# Altium footprint library FootPrintLib_6.PcbLib: 588 footprints (part 2 of 37)
Each footprint in its own frame and in the unit in brackets; x right, y up, seen from the top. Pads: shape width x height; smd on the part's side, far side on the other; paste and mask are expansions set on the pad; w line width, h text height; cw(c..) or ccw(c..) is an arc to the next point about the centre after c.
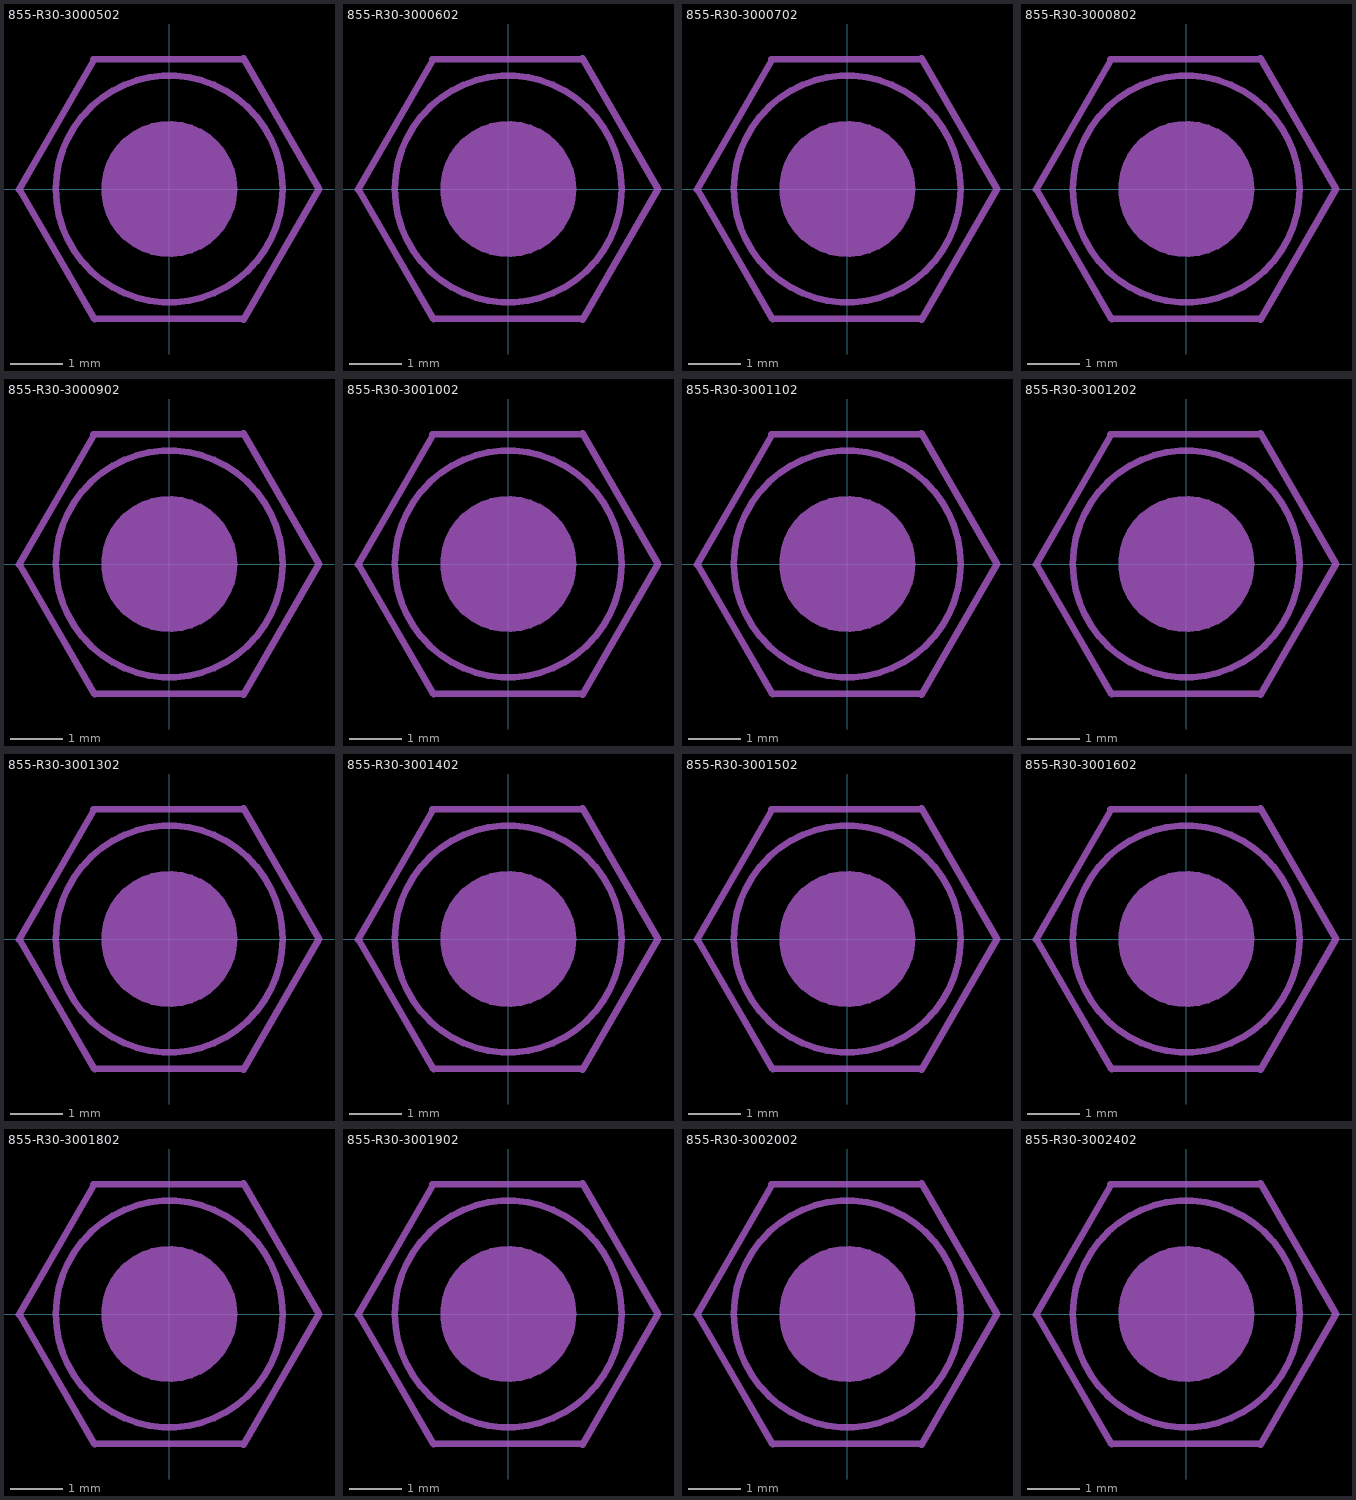
[diagram p1: the footprints below, top view; thin cyan lines are the x and y axes]

## 855-R30-3000502 [mm] "HARWiN Metric HEX Spacer; Threaded-Brass/Nickel; Male/Female; M3 X 05 mm"
height 5
Mechanical 2:
  circle w0.127: c0,0 r1.25
  circle w0.127: c0,0 r2.185
  region: -1.25,0 -1.25,-0.123 -1.202,-0.365 -1.108,-0.592 -0.971,-0.797 -0.797,-0.971 -0.592,-1.108 -0.365,-1.202 -0.123,-1.25 0,-1.25 0.123,-1.25 0.365,-1.202 0.592,-1.108 0.797,-0.971 0.971,-0.797 1.108,-0.592 1.202,-0.365 1.25,-0.123 1.25,0 1.25,0.123 1.202,0.365 1.108,0.592 0.971,0.797 0.797,0.971 0.592,1.108 0.365,1.202 0.123,1.25 0,1.25 -0.123,1.25 -0.365,1.202 -0.592,1.108 -0.797,0.971 -0.971,0.797 -1.108,0.592 -1.202,0.365 -1.25,0.123
  lines w0.127: -2.895,-0.015 -1.464,2.465 ; -2.87,-0.03 -1.438,-2.51 ; -1.464,2.5 1.432,2.5 ; -1.42,-2.5 1.432,-2.5 ; 1.432,-2.52 2.887,0 1.432,2.52
3D body "Metric Brass-Nickel HEX Spacer Male-Female M3 X 05 mm.STEP": height 5, standoff -6, extent -2.887,-2.5 2.887,2.5

## 855-R30-3000602 [mm] "HARWiN Metric HEX Spacer; Threaded-Brass/Nickel; Male/Female; M3 X 06 mm"
height 6
Mechanical 2:
  circle w0.127: c0,0 r1.25
  circle w0.127: c0,0 r2.185
  region: -1.25,0 -1.25,-0.123 -1.202,-0.365 -1.108,-0.592 -0.971,-0.797 -0.797,-0.971 -0.592,-1.108 -0.365,-1.202 -0.123,-1.25 0,-1.25 0.123,-1.25 0.365,-1.202 0.592,-1.108 0.797,-0.971 0.971,-0.797 1.108,-0.592 1.202,-0.365 1.25,-0.123 1.25,0 1.25,0.123 1.202,0.365 1.108,0.592 0.971,0.797 0.797,0.971 0.592,1.108 0.365,1.202 0.123,1.25 0,1.25 -0.123,1.25 -0.365,1.202 -0.592,1.108 -0.797,0.971 -0.971,0.797 -1.108,0.592 -1.202,0.365 -1.25,0.123
  lines w0.127: -2.895,-0.015 -1.464,2.465 ; -2.87,-0.03 -1.438,-2.51 ; -1.464,2.5 1.432,2.5 ; -1.42,-2.5 1.432,-2.5 ; 1.432,-2.52 2.887,0 1.432,2.52
3D body "Metric Brass-Nickel HEX Spacer Male-Female M3 X 06 mm.STEP": height 6, standoff -6, extent -2.887,-2.5 2.887,2.5

## 855-R30-3000702 [mm] "HARWiN Metric HEX Spacer; Threaded-Brass/Nickel; Male/Female; M3 X 07 mm"
height 7
Mechanical 2:
  circle w0.127: c0,0 r1.25
  circle w0.127: c0,0 r2.185
  region: -1.25,0 -1.25,-0.123 -1.202,-0.365 -1.108,-0.592 -0.971,-0.797 -0.797,-0.971 -0.592,-1.108 -0.365,-1.202 -0.123,-1.25 0,-1.25 0.123,-1.25 0.365,-1.202 0.592,-1.108 0.797,-0.971 0.971,-0.797 1.108,-0.592 1.202,-0.365 1.25,-0.123 1.25,0 1.25,0.123 1.202,0.365 1.108,0.592 0.971,0.797 0.797,0.971 0.592,1.108 0.365,1.202 0.123,1.25 0,1.25 -0.123,1.25 -0.365,1.202 -0.592,1.108 -0.797,0.971 -0.971,0.797 -1.108,0.592 -1.202,0.365 -1.25,0.123
  lines w0.127: -2.895,-0.015 -1.464,2.465 ; -2.87,-0.03 -1.438,-2.51 ; -1.464,2.5 1.432,2.5 ; -1.42,-2.5 1.432,-2.5 ; 1.432,-2.52 2.887,0 1.432,2.52
3D body "Metric Brass-Nickel HEX Spacer Male-Female M3 X 07 mm.STEP": height 7, standoff -6, extent -2.887,-2.5 2.887,2.5

## 855-R30-3000802 [mm] "HARWiN Metric HEX Spacer; Threaded-Brass/Nickel; Male/Female; M3 X 08 mm"
height 8
Mechanical 2:
  circle w0.127: c0,0 r2.185
  circle w0.127: c0,0 r1.25
  region: -1.25,0 -1.25,-0.123 -1.202,-0.365 -1.108,-0.592 -0.971,-0.797 -0.797,-0.971 -0.592,-1.108 -0.365,-1.202 -0.123,-1.25 0,-1.25 0.123,-1.25 0.365,-1.202 0.592,-1.108 0.797,-0.971 0.971,-0.797 1.108,-0.592 1.202,-0.365 1.25,-0.123 1.25,0 1.25,0.123 1.202,0.365 1.108,0.592 0.971,0.797 0.797,0.971 0.592,1.108 0.365,1.202 0.123,1.25 0,1.25 -0.123,1.25 -0.365,1.202 -0.592,1.108 -0.797,0.971 -0.971,0.797 -1.108,0.592 -1.202,0.365 -1.25,0.123
  lines w0.127: -2.895,-0.015 -1.464,2.465 ; -2.87,-0.03 -1.438,-2.51 ; -1.464,2.5 1.432,2.5 ; -1.42,-2.5 1.432,-2.5 ; 1.432,-2.52 2.887,0 1.432,2.52
3D body "Metric Brass-Nickel HEX Spacer Male-Female M3 X 08 mm.STEP": height 8, standoff -6, extent -2.887,-2.5 2.887,2.5

## 855-R30-3000902 [mm] "HARWiN Metric HEX Spacer; Threaded-Brass/Nickel; Male/Female; M3 X 09 mm"
height 9
Mechanical 2:
  circle w0.127: c0,0 r2.185
  circle w0.127: c0,0 r1.25
  region: -1.25,0 -1.25,-0.123 -1.202,-0.365 -1.108,-0.592 -0.971,-0.797 -0.797,-0.971 -0.592,-1.108 -0.365,-1.202 -0.123,-1.25 0,-1.25 0.123,-1.25 0.365,-1.202 0.592,-1.108 0.797,-0.971 0.971,-0.797 1.108,-0.592 1.202,-0.365 1.25,-0.123 1.25,0 1.25,0.123 1.202,0.365 1.108,0.592 0.971,0.797 0.797,0.971 0.592,1.108 0.365,1.202 0.123,1.25 0,1.25 -0.123,1.25 -0.365,1.202 -0.592,1.108 -0.797,0.971 -0.971,0.797 -1.108,0.592 -1.202,0.365 -1.25,0.123
  lines w0.127: -2.895,-0.015 -1.464,2.465 ; -2.87,-0.03 -1.438,-2.51 ; -1.464,2.5 1.432,2.5 ; -1.42,-2.5 1.432,-2.5 ; 1.432,-2.52 2.887,0 1.432,2.52
3D body "Metric Brass-Nickel HEX Spacer Male-Female M3 X 09 mm.STEP": height 9, standoff -6, extent -2.887,-2.5 2.887,2.5

## 855-R30-3001002 [mm] "HARWiN Metric HEX Spacer; Threaded-Brass/Nickel; Male/Female; M3 X 10 mm"
height 10
Mechanical 2:
  circle w0.127: c0,0 r2.185
  circle w0.127: c0,0 r1.25
  region: -1.25,0 -1.25,-0.123 -1.202,-0.365 -1.108,-0.592 -0.971,-0.797 -0.797,-0.971 -0.592,-1.108 -0.365,-1.202 -0.123,-1.25 0,-1.25 0.123,-1.25 0.365,-1.202 0.592,-1.108 0.797,-0.971 0.971,-0.797 1.108,-0.592 1.202,-0.365 1.25,-0.123 1.25,0 1.25,0.123 1.202,0.365 1.108,0.592 0.971,0.797 0.797,0.971 0.592,1.108 0.365,1.202 0.123,1.25 0,1.25 -0.123,1.25 -0.365,1.202 -0.592,1.108 -0.797,0.971 -0.971,0.797 -1.108,0.592 -1.202,0.365 -1.25,0.123
  lines w0.127: -2.895,-0.015 -1.464,2.465 ; -2.87,-0.03 -1.438,-2.51 ; -1.464,2.5 1.432,2.5 ; -1.42,-2.5 1.432,-2.5 ; 1.432,-2.52 2.887,0 1.432,2.52
3D body "Metric Brass-Nickel HEX Spacer Male-Female M3 X 10 mm.STEP": height 10, standoff -6, extent -2.887,-2.5 2.887,2.5

## 855-R30-3001102 [mm] "HARWiN Metric HEX Spacer; Threaded-Brass/Nickel; Male/Female; M3 X 11 mm"
height 11
Mechanical 2:
  circle w0.127: c0,0 r2.185
  circle w0.127: c0,0 r1.25
  region: -1.25,0 -1.25,-0.123 -1.202,-0.365 -1.108,-0.592 -0.971,-0.797 -0.797,-0.971 -0.592,-1.108 -0.365,-1.202 -0.123,-1.25 0,-1.25 0.123,-1.25 0.365,-1.202 0.592,-1.108 0.797,-0.971 0.971,-0.797 1.108,-0.592 1.202,-0.365 1.25,-0.123 1.25,0 1.25,0.123 1.202,0.365 1.108,0.592 0.971,0.797 0.797,0.971 0.592,1.108 0.365,1.202 0.123,1.25 0,1.25 -0.123,1.25 -0.365,1.202 -0.592,1.108 -0.797,0.971 -0.971,0.797 -1.108,0.592 -1.202,0.365 -1.25,0.123
  lines w0.127: -2.895,-0.015 -1.464,2.465 ; -2.87,-0.03 -1.438,-2.51 ; -1.464,2.5 1.432,2.5 ; -1.42,-2.5 1.432,-2.5 ; 1.432,-2.52 2.887,0 1.432,2.52
3D body "Metric Brass-Nickel HEX Spacer Male-Female M3 X 11 mm.STEP": height 11, standoff -6, extent -2.887,-2.5 2.887,2.5

## 855-R30-3001202 [mm] "HARWiN Metric HEX Spacer; Threaded-Brass/Nickel; Male/Female; M3 X 12 mm"
height 12
Mechanical 2:
  circle w0.127: c0,0 r2.185
  circle w0.127: c0,0 r1.25
  region: -1.25,0 -1.25,-0.123 -1.202,-0.365 -1.108,-0.592 -0.971,-0.797 -0.797,-0.971 -0.592,-1.108 -0.365,-1.202 -0.123,-1.25 0,-1.25 0.123,-1.25 0.365,-1.202 0.592,-1.108 0.797,-0.971 0.971,-0.797 1.108,-0.592 1.202,-0.365 1.25,-0.123 1.25,0 1.25,0.123 1.202,0.365 1.108,0.592 0.971,0.797 0.797,0.971 0.592,1.108 0.365,1.202 0.123,1.25 0,1.25 -0.123,1.25 -0.365,1.202 -0.592,1.108 -0.797,0.971 -0.971,0.797 -1.108,0.592 -1.202,0.365 -1.25,0.123
  lines w0.127: -2.895,-0.015 -1.464,2.465 ; -2.87,-0.03 -1.438,-2.51 ; -1.464,2.5 1.432,2.5 ; -1.42,-2.5 1.432,-2.5 ; 1.432,-2.52 2.887,0 1.432,2.52
3D body "Metric Brass-Nickel HEX Spacer Male-Female M3 X 12 mm.STEP": height 12, standoff -6, extent -2.887,-2.5 2.887,2.5

## 855-R30-3001302 [mm] "HARWiN Metric HEX Spacer; Threaded-Brass/Nickel; Male/Female; M3 X 13 mm"
height 13
Mechanical 2:
  circle w0.127: c0,0 r1.25
  circle w0.127: c0,0 r2.185
  region: -1.25,0 -1.25,-0.123 -1.202,-0.365 -1.108,-0.592 -0.971,-0.797 -0.797,-0.971 -0.592,-1.108 -0.365,-1.202 -0.123,-1.25 0,-1.25 0.123,-1.25 0.365,-1.202 0.592,-1.108 0.797,-0.971 0.971,-0.797 1.108,-0.592 1.202,-0.365 1.25,-0.123 1.25,0 1.25,0.123 1.202,0.365 1.108,0.592 0.971,0.797 0.797,0.971 0.592,1.108 0.365,1.202 0.123,1.25 0,1.25 -0.123,1.25 -0.365,1.202 -0.592,1.108 -0.797,0.971 -0.971,0.797 -1.108,0.592 -1.202,0.365 -1.25,0.123
  lines w0.127: -2.895,-0.015 -1.464,2.465 ; -2.87,-0.03 -1.438,-2.51 ; -1.464,2.5 1.432,2.5 ; -1.42,-2.5 1.432,-2.5 ; 1.432,-2.52 2.887,0 1.432,2.52
3D body "Metric Brass-Nickel HEX Spacer Male-Female M3 X 13 mm.STEP": height 13, standoff -6, extent -2.887,-2.5 2.887,2.5

## 855-R30-3001402 [mm] "HARWiN Metric HEX Spacer; Threaded-Brass/Nickel; Male/Female; M3 X 14 mm"
height 14
Mechanical 2:
  circle w0.127: c0,0 r2.185
  circle w0.127: c0,0 r1.25
  region: -1.25,0 -1.25,-0.123 -1.202,-0.365 -1.108,-0.592 -0.971,-0.797 -0.797,-0.971 -0.592,-1.108 -0.365,-1.202 -0.123,-1.25 0,-1.25 0.123,-1.25 0.365,-1.202 0.592,-1.108 0.797,-0.971 0.971,-0.797 1.108,-0.592 1.202,-0.365 1.25,-0.123 1.25,0 1.25,0.123 1.202,0.365 1.108,0.592 0.971,0.797 0.797,0.971 0.592,1.108 0.365,1.202 0.123,1.25 0,1.25 -0.123,1.25 -0.365,1.202 -0.592,1.108 -0.797,0.971 -0.971,0.797 -1.108,0.592 -1.202,0.365 -1.25,0.123
  lines w0.127: -2.895,-0.015 -1.464,2.465 ; -2.87,-0.03 -1.438,-2.51 ; -1.464,2.5 1.432,2.5 ; -1.42,-2.5 1.432,-2.5 ; 1.432,-2.52 2.887,0 1.432,2.52
3D body "Metric Brass-Nickel HEX Spacer Male-Female M3 X 14 mm.STEP": height 14, standoff -6, extent -2.887,-2.5 2.887,2.5

## 855-R30-3001502 [mm] "HARWiN Metric HEX Spacer; Threaded-Brass/Nickel; Male/Female; M3 X 15 mm"
height 15
Mechanical 2:
  circle w0.127: c0,0 r1.25
  circle w0.127: c0,0 r2.185
  region: -1.25,0 -1.25,-0.123 -1.202,-0.365 -1.108,-0.592 -0.971,-0.797 -0.797,-0.971 -0.592,-1.108 -0.365,-1.202 -0.123,-1.25 0,-1.25 0.123,-1.25 0.365,-1.202 0.592,-1.108 0.797,-0.971 0.971,-0.797 1.108,-0.592 1.202,-0.365 1.25,-0.123 1.25,0 1.25,0.123 1.202,0.365 1.108,0.592 0.971,0.797 0.797,0.971 0.592,1.108 0.365,1.202 0.123,1.25 0,1.25 -0.123,1.25 -0.365,1.202 -0.592,1.108 -0.797,0.971 -0.971,0.797 -1.108,0.592 -1.202,0.365 -1.25,0.123
  lines w0.127: -2.895,-0.015 -1.464,2.465 ; -2.87,-0.03 -1.438,-2.51 ; -1.464,2.5 1.432,2.5 ; -1.42,-2.5 1.432,-2.5 ; 1.432,-2.52 2.887,0 1.432,2.52
3D body "Metric Brass-Nickel HEX Spacer Male-Female M3 X 15 mm.STEP": height 15, standoff -6, extent -2.887,-2.5 2.887,2.5

## 855-R30-3001602 [mm] "HARWiN Metric HEX Spacer; Threaded-Brass/Nickel; Male/Female; M3 X 16 mm"
height 16
Mechanical 2:
  circle w0.127: c0,0 r2.185
  circle w0.127: c0,0 r1.25
  region: -1.25,0 -1.25,-0.123 -1.202,-0.365 -1.108,-0.592 -0.971,-0.797 -0.797,-0.971 -0.592,-1.108 -0.365,-1.202 -0.123,-1.25 0,-1.25 0.123,-1.25 0.365,-1.202 0.592,-1.108 0.797,-0.971 0.971,-0.797 1.108,-0.592 1.202,-0.365 1.25,-0.123 1.25,0 1.25,0.123 1.202,0.365 1.108,0.592 0.971,0.797 0.797,0.971 0.592,1.108 0.365,1.202 0.123,1.25 0,1.25 -0.123,1.25 -0.365,1.202 -0.592,1.108 -0.797,0.971 -0.971,0.797 -1.108,0.592 -1.202,0.365 -1.25,0.123
  lines w0.127: -2.895,-0.015 -1.464,2.465 ; -2.87,-0.03 -1.438,-2.51 ; -1.464,2.5 1.432,2.5 ; -1.42,-2.5 1.432,-2.5 ; 1.432,-2.52 2.887,0 1.432,2.52
3D body "Metric Brass-Nickel HEX Spacer Male-Female M3 X 16 mm.STEP": height 16, standoff -6, extent -2.887,-2.5 2.887,2.5

## 855-R30-3001802 [mm] "HARWiN Metric HEX Spacer; Threaded-Brass/Nickel; Male/Female; M3 X 18 mm"
height 18
Mechanical 2:
  circle w0.127: c0,0 r2.185
  circle w0.127: c0,0 r1.25
  region: -1.25,0 -1.25,-0.123 -1.202,-0.365 -1.108,-0.592 -0.971,-0.797 -0.797,-0.971 -0.592,-1.108 -0.365,-1.202 -0.123,-1.25 0,-1.25 0.123,-1.25 0.365,-1.202 0.592,-1.108 0.797,-0.971 0.971,-0.797 1.108,-0.592 1.202,-0.365 1.25,-0.123 1.25,0 1.25,0.123 1.202,0.365 1.108,0.592 0.971,0.797 0.797,0.971 0.592,1.108 0.365,1.202 0.123,1.25 0,1.25 -0.123,1.25 -0.365,1.202 -0.592,1.108 -0.797,0.971 -0.971,0.797 -1.108,0.592 -1.202,0.365 -1.25,0.123
  lines w0.127: -2.895,-0.015 -1.464,2.465 ; -2.87,-0.03 -1.438,-2.51 ; -1.464,2.5 1.432,2.5 ; -1.42,-2.5 1.432,-2.5 ; 1.432,-2.52 2.887,0 1.432,2.52
3D body "Metric Brass-Nickel HEX Spacer Male-Female M3 X 18 mm.STEP": height 18, standoff -6, extent -2.887,-2.5 2.887,2.5

## 855-R30-3001902 [mm] "HARWiN Metric HEX Spacer; Threaded-Brass/Nickel; Male/Female; M3 X 19 mm"
height 19
Mechanical 2:
  circle w0.127: c0,0 r2.185
  circle w0.127: c0,0 r1.25
  region: -1.25,0 -1.25,-0.123 -1.202,-0.365 -1.108,-0.592 -0.971,-0.797 -0.797,-0.971 -0.592,-1.108 -0.365,-1.202 -0.123,-1.25 0,-1.25 0.123,-1.25 0.365,-1.202 0.592,-1.108 0.797,-0.971 0.971,-0.797 1.108,-0.592 1.202,-0.365 1.25,-0.123 1.25,0 1.25,0.123 1.202,0.365 1.108,0.592 0.971,0.797 0.797,0.971 0.592,1.108 0.365,1.202 0.123,1.25 0,1.25 -0.123,1.25 -0.365,1.202 -0.592,1.108 -0.797,0.971 -0.971,0.797 -1.108,0.592 -1.202,0.365 -1.25,0.123
  lines w0.127: -2.895,-0.015 -1.464,2.465 ; -2.87,-0.03 -1.438,-2.51 ; -1.464,2.5 1.432,2.5 ; -1.42,-2.5 1.432,-2.5 ; 1.432,-2.52 2.887,0 1.432,2.52
3D body "Metric Brass-Nickel HEX Spacer Male-Female M3 X 19 mm.STEP": height 19, standoff -6, extent -2.887,-2.5 2.887,2.5

## 855-R30-3002002 [mm] "HARWiN Metric HEX Spacer; Threaded-Brass/Nickel; Male/Female; M3 X 20 mm"
height 20
Mechanical 2:
  circle w0.127: c0,0 r2.185
  circle w0.127: c0,0 r1.25
  region: -1.25,0 -1.25,-0.123 -1.202,-0.365 -1.108,-0.592 -0.971,-0.797 -0.797,-0.971 -0.592,-1.108 -0.365,-1.202 -0.123,-1.25 0,-1.25 0.123,-1.25 0.365,-1.202 0.592,-1.108 0.797,-0.971 0.971,-0.797 1.108,-0.592 1.202,-0.365 1.25,-0.123 1.25,0 1.25,0.123 1.202,0.365 1.108,0.592 0.971,0.797 0.797,0.971 0.592,1.108 0.365,1.202 0.123,1.25 0,1.25 -0.123,1.25 -0.365,1.202 -0.592,1.108 -0.797,0.971 -0.971,0.797 -1.108,0.592 -1.202,0.365 -1.25,0.123
  lines w0.127: -2.895,-0.015 -1.464,2.465 ; -2.87,-0.03 -1.438,-2.51 ; -1.464,2.5 1.432,2.5 ; -1.42,-2.5 1.432,-2.5 ; 1.432,-2.52 2.887,0 1.432,2.52
3D body "Metric Brass-Nickel HEX Spacer Male-Female M3 X 20 mm.STEP": height 20, standoff -6, extent -2.887,-2.5 2.887,2.5

## 855-R30-3002402 [mm] "HARWiN Metric HEX Spacer; Threaded-Brass/Nickel; Male/Female; M3 X 24 mm"
height 24
Mechanical 2:
  circle w0.127: c0,0 r2.185
  circle w0.127: c0,0 r1.25
  region: -1.25,0 -1.25,-0.123 -1.202,-0.365 -1.108,-0.592 -0.971,-0.797 -0.797,-0.971 -0.592,-1.108 -0.365,-1.202 -0.123,-1.25 0,-1.25 0.123,-1.25 0.365,-1.202 0.592,-1.108 0.797,-0.971 0.971,-0.797 1.108,-0.592 1.202,-0.365 1.25,-0.123 1.25,0 1.25,0.123 1.202,0.365 1.108,0.592 0.971,0.797 0.797,0.971 0.592,1.108 0.365,1.202 0.123,1.25 0,1.25 -0.123,1.25 -0.365,1.202 -0.592,1.108 -0.797,0.971 -0.971,0.797 -1.108,0.592 -1.202,0.365 -1.25,0.123
  lines w0.127: -2.895,-0.015 -1.464,2.465 ; -2.87,-0.03 -1.438,-2.51 ; -1.464,2.5 1.432,2.5 ; -1.42,-2.5 1.432,-2.5 ; 1.432,-2.52 2.887,0 1.432,2.52
3D body "Metric Brass-Nickel HEX Spacer Male-Female M3 X 24 mm.STEP": height 24, standoff -6, extent -2.887,-2.5 2.887,2.5